# EAGLE library part M34509G4FP (library panasonic_F408HS)
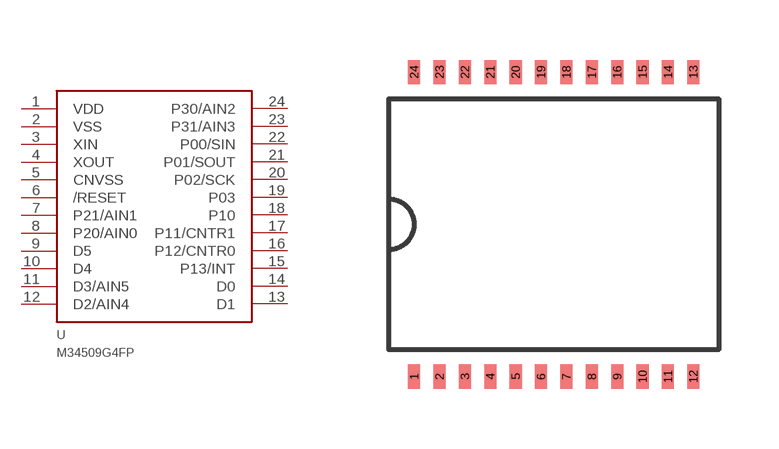
[diagram p0: symbol with the pads of SSOP24; footprint SSOP24]

Designator prefix -

## M34509G4FP  [SSOP24]
1  VDD
2  VSS
3  XIN
4  XOUT
5  CNVSS
6  /RESET
7  P21/AIN1
8  P20/AIN0
9  D5
10  D4
11  D3/AIN5
12  D2/AIN4
13  D1
14  D0
15  P13/INT
16  P12/CNTR0
17  P11/CNTR1
18  P10
19  P03
20  P02/SCK
21  P01/SOUT
22  P00/SIN
23  P31/AIN3
24  P30/AIN2

## Footprint SSOP24 (pad centres in mm)
SSOP 24 Source: Uploaded by Heiko Künzel <heiko.kuenzel@atg-gera.de> from ATG Automatisierungstechnik Gera Mon Mar 10 13:32:48 2003 Atmel-Library mit zusätzlich T83C5121-Prozessor im SSOP24-Package. Package centre and <NAME & <VALUE placed by librarian@cadsoft.de.
smd 0.305 x 0.61: 1 -3.493,-3.81; 2 -2.857,-3.81; 3 -2.223,-3.81; 4 -1.587,-3.81; 5 -0.953,-3.81; 6 -0.318,-3.81; 7 0.318,-3.81; 8 0.953,-3.81; 9 1.587,-3.81; 10 2.223,-3.81; 11 2.857,-3.81; 12 3.493,-3.81; 13 3.493,3.81; 14 2.857,3.81; 15 2.223,3.81; 16 1.587,3.81; 17 0.953,3.81; 18 0.318,3.81; 19 -0.318,3.81; 20 -0.953,3.81; 21 -1.587,3.81; 22 -2.223,3.81; 23 -2.857,3.81; 24 -3.493,3.81